# EAGLE library part SILICONLABS-BT121 (library FaBo-BT)
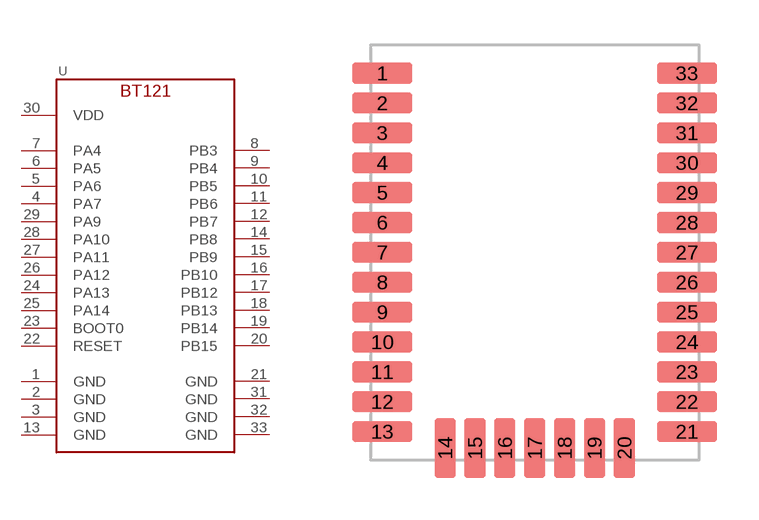
[diagram p10: symbol with the pads of SILICONLABS-BT121; footprint SILICONLABS-BT121]

Designator prefix U

## SILICONLABS-BT121  [SILICONLABS-BT121]
1  GND
2  GND
3  GND
4  PA7
5  PA6
6  PA5
7  PA4
8  PB3
9  PB4
10  PB5
11  PB6
12  PB7
13  GND
14  PB8
15  PB9
16  PB10
17  PB12
18  PB13
19  PB14
20  PB15
21  GND
22  RESET
23  BOOT0
24  PA13
25  PA14
26  PA12
27  PA11
28  PA10
29  PA9
30  VDD
31  GND
32  GND
33  GND

## Footprint SILICONLABS-BT121 (pad centres in mm)
smd 2 x 0.7: 1 -5.1,6; 2 -5.1,5; 3 -5.1,4; 4 -5.1,3; 5 -5.1,2; 6 -5.1,1; 7 -5.1,0; 8 -5.1,-1; 9 -5.1,-2; 10 -5.1,-3; 11 -5.1,-4; 12 -5.1,-5; 13 -5.1,-6; 21 5.1,-6; 22 5.1,-5; 23 5.1,-4; 24 5.1,-3; 25 5.1,-2; 26 5.1,-1; 27 5.1,0; 28 5.1,1; 29 5.1,2; 30 5.1,3; 31 5.1,4; 32 5.1,5; 33 5.1,6
smd 0.7 x 2: 14 -3,-6.55; 15 -2,-6.55; 16 -1,-6.55; 17 0,-6.55; 18 1,-6.55; 19 2,-6.55; 20 3,-6.55